# EAGLE library part TMM-106-03-S-G (library m-pad)
Samtec TMM Board-Stacker serie. Single Row
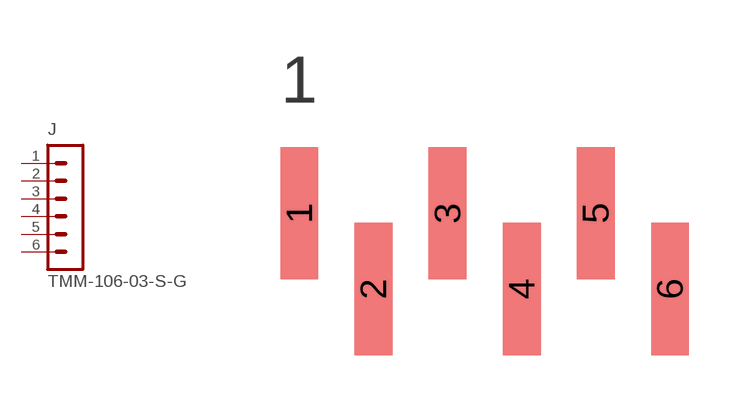
[diagram p46: symbol with the pads of TMM-106-S; footprint TMM-106-S]

Designator prefix J

## TMM-106-03-S-G  [TMM-106-S]
1  1  pas
2  2  pas
3  3  pas
4  4  pas
5  5  pas
6  6  pas

## Footprint TMM-106-S (pad centres in mm)
smd 1.02 x 3.56: 1 -3,1.022; 2 -1,-1.022; 3 1,1.022; 4 3,-1.022; 5 5,1.022; 6 7,-1.022